# Altium schematic symbol library power.SchLib: 18 symbols
Pins are listed as number, name and electrical type; pins without a type are passive.

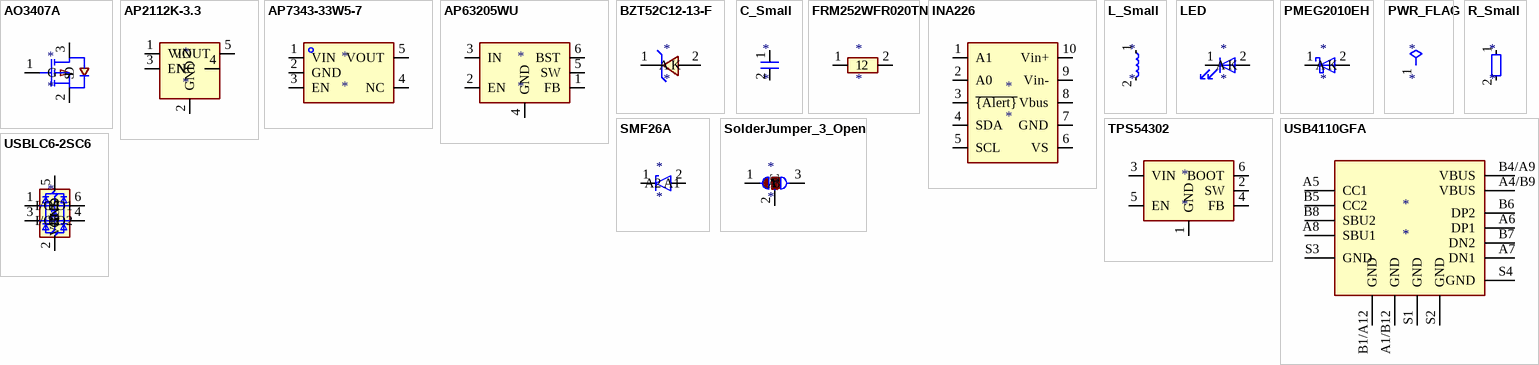
[diagram p0: symbols AO3407A to USBLC6-2SC6]

## AO3407A
designator *
pins: 1 G, 2 S, 3 D

## AP2112K-3.3
designator *
pins: 1 VIN, 2 GND, 3 EN, 4 NC, 5 VOUT

## AP7343-33W5-7
designator *
pins: 1 VIN, 2 GND, 3 EN, 4 NC, 5 VOUT

## AP63205WU
designator *
pins: 1 FB, 2 EN, 3 IN, 4 GND, 5 SW, 6 BST

## BZT52C12-13-F
designator *
pins: 1 K, 2 A

## C_Small
designator *
pins: 1, 2

## FRM252WFR020TN
designator *
pins: 1, 2

## INA226
designator *
pins: 1 A1, 2 A0, 3 ~{{Alert}}, 4 SDA, 5 SCL, 6 VS, 7 GND, 8 Vbus, 9 Vin-, 10 Vin+

## L_Small
designator *
pins: 1, 2

## LED
designator *
pins: 1 K, 2 A

## PMEG2010EH
designator *
pins: 1 K, 2 A

## PWR_FLAG
designator *  (graphical)
pins: 1

## R_Small
designator *
pins: 1, 2

## SMF26A
designator *
pins: 1 A1, 2 A2

## SolderJumper_3_Open
designator *
pins: 1 A, 2 C, 3 B

## TPS54302
designator *
pins: 1 GND, 2 SW, 3 VIN, 4 FB, 5 EN, 6 BOOT

## USB4110GFA
designator *
pins: A1/B12 GND, A4/B9 VBUS, A5 CC1, A6 DP1, A7 DN1, A8 SBU1, B1/A12 GND, B4/A9 VBUS, B5 CC2, B6 DP2, B7 DN2, B8 SBU2, S1 GND, S2 GND, S3 GND, S4 GND

## USBLC6-2SC6
designator *
pins: 1 I/O1, 2 GND, 3 I/O2, 4 I/O2, 5 VBUS, 6 I/O1